# Altium footprint library FLS ADC_A.PcbLib: 26 footprints (part 1 of 2)
Each footprint in its own frame and in the unit in brackets; x right, y up, seen from the top. Pads: shape width x height; smd on the part's side, far side on the other; paste and mask are expansions set on the pad; w line width, h text height; cw(c..) or ccw(c..) is an arc to the next point about the centre after c.
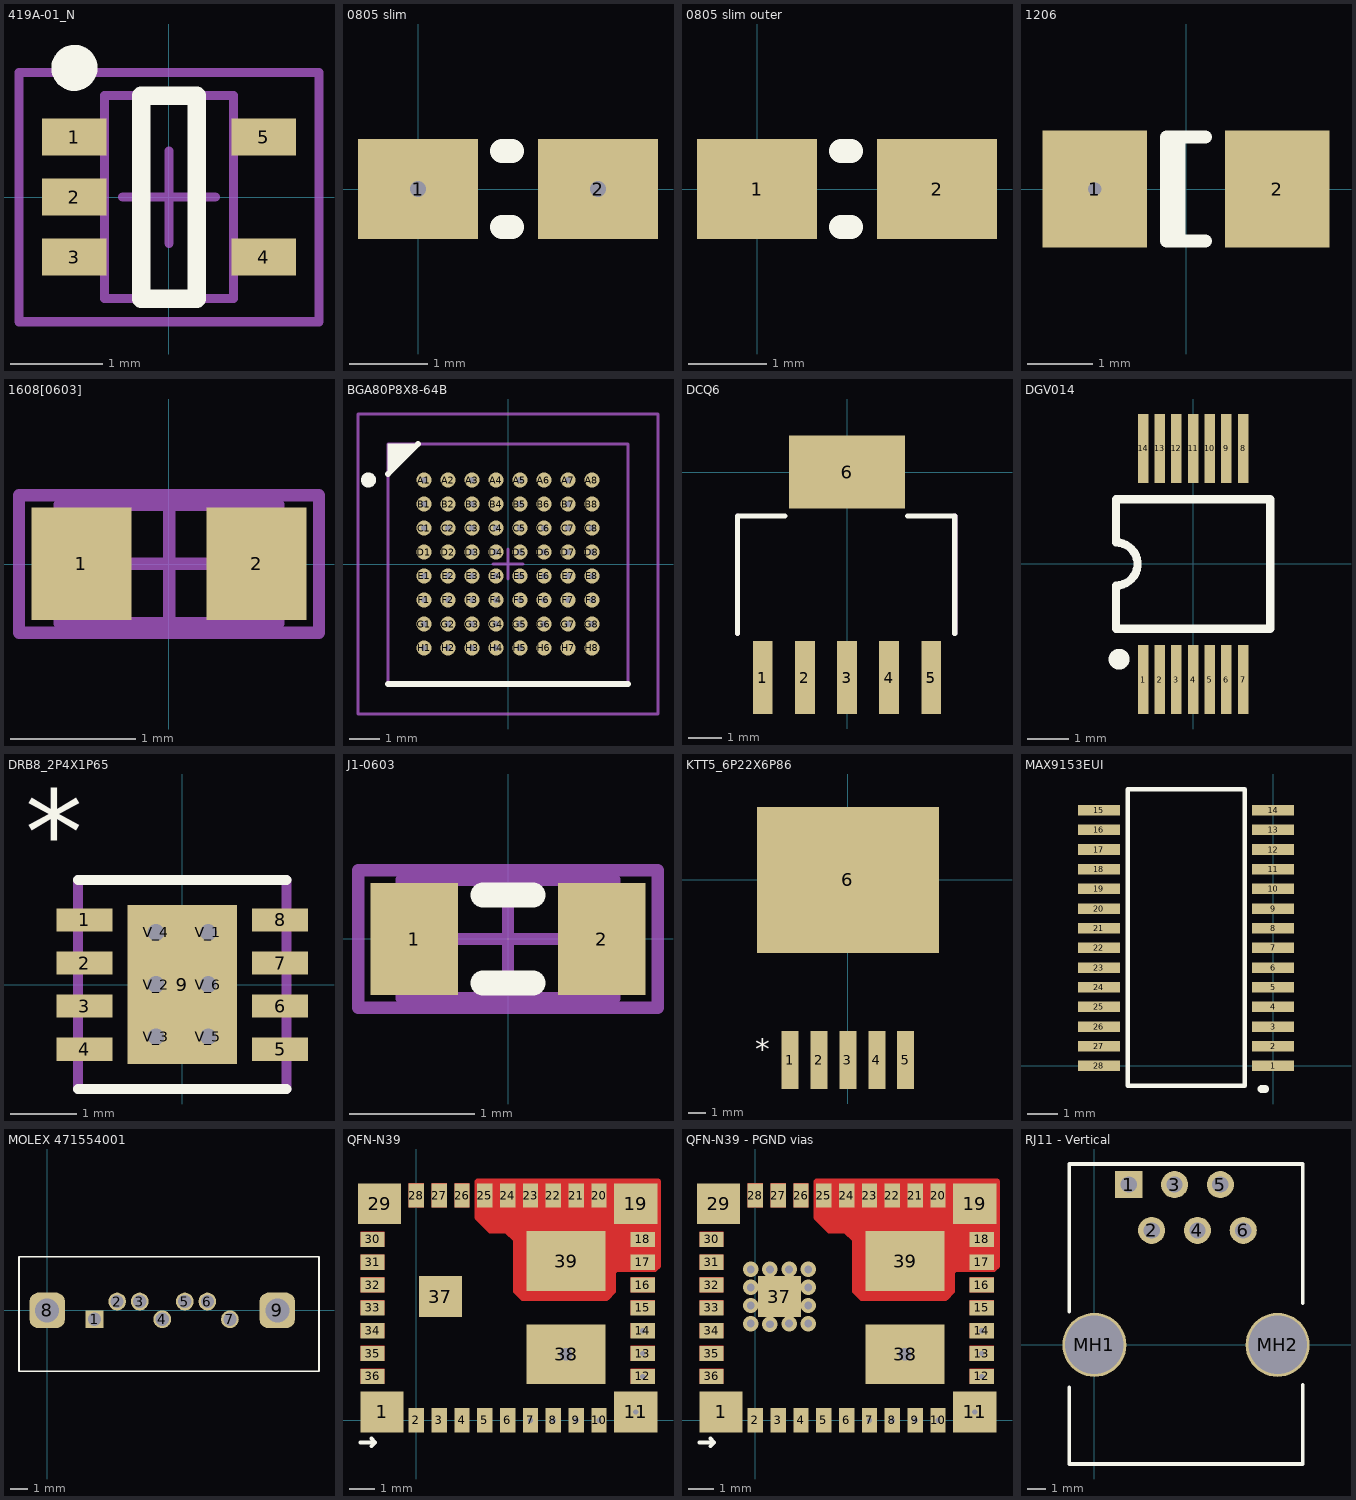
[diagram p0: the footprints below, top view; thin cyan lines are the x and y axes]

## 419A-01_N [mm] "SOT353, 5-Leads, Body 2x1.3mm, Pitch 0.65mm, Lead Span 2.1mm, IPC Medium Density"
height 1.1
pads (5):
  rect 0.7x0.4 smd: 1(-1.025,0.65) 2(-1.025,0) 3(-1.025,-0.65) 4(1.025,-0.65) 5(1.025,0.65)
Top Overlay:
  circle w0.25: c-1.025,1.4 r0.125
  lines w0.2: -0.3,-1.1 0.3,-1.1 0.3,1.1 -0.3,1.1 -0.3,-1.1
Mechanical 13:
  lines w0.1: -0.7,-1.1 -0.7,1.1 0.7,1.1 0.7,-1.1 -0.7,-1.1
Mechanical 15:
  lines w0.1: -0.5,0 0.5,0 ; 0,-0.5 0,0.5 ; -1.625,-1.35 -1.625,1.35 1.625,1.35 1.625,-1.35 -1.625,-1.35
3D body: height 1.1, standoff 0, extent -0.7,-1.1 0.7,1.1

## 0805 slim [mil]
height 2
pads (2):
  rect 60x50 / inner rect 60x50 / far side rect 20x20 hole 8: 1(0,0)
  rect 60x50 hole 8: 2(90,0)
Top Overlay:
  lines w12: 42,-19 47,-19 ; 42,19 47,19

## 0805 slim outer [mil]
height 2
pads (2):
  rect 60x50 smd: 1(0,0) 2(90,0)
Top Overlay:
  lines w12: 42,-19 47,-19 ; 42,19 47,19

## 1206 [mm] "Chip Capacitor; Body 3.2 x 1.6 mm (LxW typ)"
height 1.5
pads (2):
  rect 1.6x1.8 hole 0.203: 1(-1.4,0)
  rect 1.6x1.8 smd: 2(1.4,0)
Top Overlay:
  lines w0.2: -0.11,-0.8 -0.11,0.8 ; 0.3,-0.8 -0.3,-0.8 -0.3,0.8 0.3,0.8

## 1608[0603] [mm] "Chip Capacitor, Body 1.6x0.8mm, IPC High Density"
height 1.3
pads (2):
  rect 0.8x0.9 smd: 1(-0.7,0) 2(0.7,0)
Mechanical 13:
  lines w0.1: -0.875,-0.475 0.875,-0.475 0.875,0.475 -0.875,0.475 -0.875,-0.475
Mechanical 15:
  lines w0.1: -0.475,0 0.475,0 ; 0,-0.475 0,0.475 ; -1.2,-0.55 1.2,-0.55 1.2,0.55 -1.2,0.55 -1.2,-0.55
3D body: height 1.3, standoff 0, extent -0.875,-0.475 0.875,0.475

## BGA80P8X8-64B [mil] "BGA, 64-Leads, Body 8x8mm, Pitch 0.8mm"
height 66.93
pads (64):
  round 20 hole 8: A1(-110.24,110.24) A3(-47.24,110.24) A5(15.75,110.24) A7(78.74,110.24) B1(-110.24,78.74) B3(-47.24,78.74) B5(15.75,78.74) B7(78.74,78.74) C1(-110.24,47.24) C2(-78.74,47.24) C3(-47.24,47.24) C4(-15.75,47.24) C5(15.75,47.24) C6(47.24,47.24) C7(78.74,47.24) C8(110.24,47.24) D3(-47.24,15.75) D4(-15.75,15.75) D5(15.75,15.75) D6(47.24,15.75) D7(78.74,15.75) D8(110.24,15.75) E1(-110.24,-15.75) E2(-78.74,-15.75) E3(-47.24,-15.75) E4(-15.75,-15.75) E5(15.75,-15.75) E6(47.24,-15.75) E7(78.74,-15.75) E8(110.24,-15.75) F1(-110.24,-47.24) F2(-78.74,-47.24) F3(-47.24,-47.24) F4(-15.75,-47.24) F5(15.75,-47.24) F6(47.24,-47.24) F7(78.74,-47.24) F8(110.24,-47.24) G1(-110.24,-78.74) G2(-78.74,-78.74) G3(-47.24,-78.74) G4(-15.75,-78.74) G5(15.75,-78.74) G6(47.24,-78.74) G7(78.74,-78.74) G8(110.24,-78.74) H1(-110.24,-110.24) H2(-78.74,-110.24) H3(-47.24,-110.24) H4(-15.75,-110.24) H5(15.75,-110.24)
  round 20 smd: A2(-78.74,110.24) A4(-15.75,110.24) A6(47.24,110.24) A8(110.24,110.24) B2(-78.74,78.74) B4(-15.75,78.74) B6(47.24,78.74) B8(110.24,78.74) D1(-110.24,15.75) D2(-78.74,15.75) H6(47.24,-110.24) H7(78.74,-110.24) H8(110.24,-110.24)
Top Overlay:
  circle w9.84: c-183.07,110.24 r4.92
  region: -118.11,157.48 -157.48,118.11 -157.48,157.48
  lines w7.87: -157.48,-157.48 157.48,-157.48 ; -157.48,118.11 -118.11,157.48
Mechanical 13:
  lines w3.94: -157.48,-157.48 -157.48,157.48 157.48,157.48 157.48,-157.48 -157.48,-157.48
Mechanical 15:
  lines w3.94: -19.68,0 19.69,0 ; 0,-19.69 0,19.69 ; -196.85,-196.85 -196.85,196.85 196.85,196.85 196.85,-196.85 -196.85,-196.85
3D body: height 43.31, standoff 0, extent -157.48,-157.48 157.48,157.48

## DCQ6 [mm]
height 1.803
pads (6):
  rect 0.6x2.2 smd: 1(-2.54,-6.2) 2(-1.27,-6.2) 3(0,-6.2) 4(1.27,-6.2) 5(2.54,-6.2)
  rect 3.5x2.2 smd: 6(0,0)
Top Overlay:
  lines w0.152: -3.302,-4.877 -3.302,-1.321 -1.871,-1.321 ; 1.82,-1.321 3.251,-1.321 3.251,-4.877
Mechanical 1:
  lines w0: -3.302,-4.877 -3.302,-1.321 ; 3.251,-4.877 3.251,-1.321
  lines w0.152: -3.302,-4.877 -3.302,-1.321 ; 3.251,-4.877 3.251,-1.321

## DGV014 [mm] "Shrink Small Outline; 14 Leads; Body Width 4.4 mm; Pitch 0.4 mm"
height 1.2
pads (14):
  rect 0.25x1.65 smd: 1(-1.2,-2.775) 2(-0.8,-2.775) 3(-0.4,-2.775) 4(0,-2.775) 5(0.4,-2.775) 6(0.8,-2.775) 7(1.2,-2.775) 8(1.2,2.775) 9(0.8,2.775) 10(0.4,2.775) 11(0,2.775) 12(-0.4,2.775) 13(-0.8,2.775) 14(-1.2,2.775)
Top Overlay:
  circle w0.25: c-1.778,-2.284 r0.125
  lines w0.2: -1.85,-1.55 -1.85,-0.517 ccw(c-1.85,0) -1.85,0.517 -1.85,1.55 1.85,1.55 1.85,-1.55 -1.85,-1.55

## DRB8_2P4X1P65 [mm]
height 2.54
pads (15):
  rect 0.85x0.35 smd paste-0.412: 1(-1.475,0.975) 2(-1.475,0.325) 3(-1.475,-0.325) 4(-1.475,-0.975) 5(1.475,-0.975) 6(1.475,-0.325) 7(1.475,0.325) 8(1.475,0.975)
  rect 1.65x2.4 smd paste-1.187 mask-1.187: 9(0,0)
  round 0.508 / inner round 1.524 / far side round 0.508 hole 0.254: V_1(0.394,0.787) V_2(-0.394,0) V_3(-0.394,-0.787) V_4(-0.394,0.787) V_5(0.394,-0.787) V_6(0.394,0)
Top Layer:
  region: 0,-1.2
Top Overlay:
  lines w0.152: -1.575,-1.575 1.575,-1.575 ; -1.575,1.575 1.575,1.575
  text "*" at -2.369,1.681 h1.27
Top Paste:
  drawing of 21 lines, arcs and shapes, not listed
Top Solder:
  region: 0.594,-1.264 0.594,1.264 0.888,1.264 0.888,-1.264
  region: 0.194,-1.264 0.194,1.264 -0.194,1.264 -0.194,-1.264
  region: -0.888,-1.264 -0.888,1.264 -0.594,1.264 -0.594,-1.264
  region: -0.888,-1.264 -0.888,-0.987 0.888,-0.987 0.888,-1.264
  region: -0.888,-0.587 -0.888,-0.2 0.888,-0.2 0.888,-0.587
  region: -0.888,0.2 -0.888,0.587 0.888,0.587 0.888,0.2
  region: -0.888,0.987 -0.888,1.264 0.888,1.264 0.888,0.987
  region: 0,-1.2
  region: 1.97,1.22 0.98,1.22 0.98,0.73 1.97,0.73
  region: 1.97,0.57 0.98,0.57 0.98,0.08 1.97,0.08
  region: 1.97,-0.08 0.98,-0.08 0.98,-0.57 1.97,-0.57
  region: 1.97,-0.73 0.98,-0.73 0.98,-1.22 1.97,-1.22
  region: -0.98,-0.73 -1.97,-0.73 -1.97,-1.22 -0.98,-1.22
  region: -0.98,-0.08 -1.97,-0.08 -1.97,-0.57 -0.98,-0.57
  region: -0.98,0.57 -1.97,0.57 -1.97,0.08 -0.98,0.08
  region: -0.98,1.22 -1.97,1.22 -1.97,0.73 -0.98,0.73
Mechanical 1:
  lines w0: -1.575,-1.575 -1.575,1.575 1.575,1.575 1.575,-1.575 -1.575,-1.575 ; -1.575,-1.16 -1.575,-0.79 -1.575,-1.16 ; -1.575,-0.51 -1.575,-0.14 -1.575,-0.51 ; -1.575,0.14 -1.575,0.51 -1.575,0.14 ; -1.575,0.79 -1.575,1.16 -1.575,0.79 ; 1.575,-1.16 1.575,-0.79 1.575,-1.16 ; 1.575,-0.51 1.575,-0.14 1.575,-0.51 ; 1.575,0.14 1.575,0.51 1.575,0.14 ; 1.575,0.79 1.575,1.16 1.575,0.79
  lines w0.152: -1.575,-1.575 1.575,-1.575 1.575,1.575 -1.575,1.575 -1.575,-1.575
  text "*" at -2.369,1.681 h1.27

## J1-0603 [mm] "Chip Resistor, Body 1.6x0.8mm, IPC High Density"
height 0.9
pads (2):
  rect 0.7x0.9 smd: 1(-0.75,0) 2(0.75,0)
Top Overlay:
  lines w0.2: -0.2,-0.35 0.2,-0.35 ; -0.2,0.35 0.2,0.35
Mechanical 13:
  lines w0.1: -0.85,-0.475 0.85,-0.475 0.85,0.475 -0.85,0.475 -0.85,-0.475
Mechanical 15:
  lines w0.1: -0.475,0 0.475,0 ; 0,-0.475 0,0.475 ; -1.2,-0.55 1.2,-0.55 1.2,0.55 -1.2,0.55 -1.2,-0.55
3D body: height 0.9, standoff 0, extent -0.85,-0.475 0.85,0.475

## KTT5_6P22X6P86 [mm]
height 2.54
pads (6):
  rect 1x3.4 smd: 1(-3.4,-10.6) 2(-1.7,-10.6) 3(0,-10.6) 4(1.7,-10.6) 5(3.4,-10.6)
  rect 10.7x8.6 smd: 6(0,0)
Top Overlay:
  text "*" at -5.461,-10.617 h1.27
Mechanical 1:
  text "100" at 0,0 h1.27
  text "*" at -5.461,-10.617 h1.27
3D body: height 4.57, standoff -0.15, extent -5.054,-11.582 5.106,2.718

## MAX9153EUI [mm]
height 1.092
pads (28):
  rect 1.4x0.35 smd: 1(0,0) 2(0,0.65) 3(0,1.3) 4(0,1.95) 5(0,2.6) 6(0,3.25) 7(0,3.9) 8(0,4.55) 9(0,5.2) 10(0,5.85) 11(0,6.5) 12(0,7.15) 13(0,7.8) 14(0,8.45) 15(-5.75,8.45) 16(-5.75,7.8) 17(-5.75,7.15) 18(-5.75,6.5) 19(-5.75,5.85) 20(-5.75,5.2) 21(-5.75,4.55) 22(-5.75,3.9) 23(-5.75,3.25) 24(-5.75,2.6) 25(-5.75,1.95) 26(-5.75,1.3) 27(-5.75,0.65) 28(-5.75,0)
Top Overlay:
  lines w0.152: -4.801,-0.66 -4.801,9.144 -0.94,9.144 -0.94,-0.66 -4.801,-0.66
  lines w0.254: -0.381,-0.762 -0.254,-0.762

## MOLEX 471554001 [mm] "CONN SATA HDR 7POS PCB VERT"
height 15
pads (9):
  rect 1x1 hole 0.74: 1(2.67,-0.5)
  round 1 hole 0.74: 2(3.94,0.5) 3(5.21,0.5) 4(6.48,-0.5) 5(7.75,0.5) 6(9.02,0.5) 7(10.29,-0.5)
  rrect50% 2x2 hole 1.35: 8(0,0) 9(12.96,0)
Top Overlay:
  lines w0.1: -1.59,-3.43 -1.59,3.027 15.31,3.027 15.31,-3.43 -1.59,-3.43
3D body: height 4.2, standoff -6.85, extent -1.59,-3.626 15.31,2.824

## QFN-N39 [mm] "TI TPS84410 Voltage Regulator"
height 2
pads (39):
  rect 1.7x1.6 smd: 1(-1.35,0.325) 19(8.65,8.525) 29(-1.45,8.525) 37(0.95,4.875)
  rect 0.6x0.95 smd: 2(0,0) 3(0.9,0) 4(1.8,0) 5(2.7,0) 6(3.6,0) 20(7.2,8.85) 21(6.3,8.85) 22(5.4,8.85) 23(4.5,8.85) 24(3.6,8.85) 25(2.7,8.85) 26(1.8,8.85) 27(0.9,8.85) 28(0,8.85)
  rect 0.6x0.95 hole 0.203: 7(4.5,0) 8(5.4,0) 9(6.3,0) 10(7.2,0)
  rect 1.7x1.6 / inner rect 1.7x1.6 / far side rect 0.508x0.508 hole 0.203: 11(8.65,0.325)
  rect 0.95x0.6 hole 0.203: 12(8.925,1.725) 13(8.925,2.625) 14(8.925,3.525)
  rect 0.95x0.6 smd: 15(8.925,4.425) 16(8.925,5.325) 17(8.925,6.225) 18(8.925,7.125) 30(-1.725,7.125) 31(-1.725,6.225) 32(-1.725,5.325) 33(-1.725,4.425) 34(-1.725,3.525) 35(-1.725,2.625) 36(-1.725,1.725)
  rect 3.1x2.35 hole 0.508: 38(5.9,2.6)
  rect 3.1x2.35 smd: 39(5.9,6.275)
Top Layer:
  region: -1.25,7.441 -2.2,7.441 -2.2,6.841 -1.25,6.841
  region: 0.3,8.391 0.3,9.341 -0.3,9.341 -0.3,8.391
  region: 1.2,8.391 1.2,9.341 0.6,9.341 0.6,8.391
  region: 3,8.391 3,9.341 2.4,9.341 2.4,8.391
  region: 2.1,8.391 2.1,9.341 1.5,9.341 1.5,8.391
  region: 5.7,8.391 5.7,9.341 5.1,9.341 5.1,8.391
  region: 6.6,8.391 6.6,9.341 6,9.341 6,8.391
  region: 4.8,8.391 4.8,9.341 4.2,9.341 4.2,8.391
  region: 3.9,8.391 3.9,9.341 3.3,9.341 3.3,8.391
  region: 7.5,8.391 7.5,9.341 6.9,9.341 6.9,8.391
  region: 9.4,7.441 8.45,7.441 8.45,6.841 9.4,6.841
  region: -1.25,5.641 -2.2,5.641 -2.2,5.041 -1.25,5.041
  region: -1.25,6.541 -2.2,6.541 -2.2,5.941 -1.25,5.941
  region: -1.25,3.841 -2.2,3.841 -2.2,3.241 -1.25,3.241
  region: -1.25,4.741 -2.2,4.741 -2.2,4.141 -1.25,4.141
  region: -1.25,2.941 -2.2,2.941 -2.2,2.341 -1.25,2.341
  region: -1.25,2.041 -2.2,2.041 -2.2,1.441 -1.25,1.441
  region: 9.4,2.041 8.45,2.041 8.45,1.441 9.4,1.441
  region: 9.4,2.941 8.45,2.941 8.45,2.341 9.4,2.341
  region: 9.4,4.741 8.45,4.741 8.45,4.141 9.4,4.141
  region: 9.4,3.841 8.45,3.841 8.45,3.241 9.4,3.241
  region: 9.4,6.541 8.45,6.541 8.45,5.941 9.4,5.941
  region: 9.4,5.641 8.45,5.641 8.45,5.041 9.4,5.041
  rectangle: 2.921,7.493 9.525,9.398
  rectangle: 2.413,8.001 3.175,8.382
  rectangle: 2.794,7.62 3.175,7.747
  rectangle: 3.937,6.223 4.826,7.747
  rectangle: 3.683,7.239 4.064,7.747
  rectangle: 3.937,5.08 7.747,6.35
  rectangle: 4.064,4.953 7.62,5.207
  rectangle: 4.572,5.969 9.398,7.747
  rectangle: 2.667,7.62 3.175,8.128
  rectangle: 2.54,7.747 2.794,8.255
  lines w0.254: 2.413,8.001 2.413,9.398 9.525,9.398 9.525,6.096 9.398,5.969 7.874,5.969 7.747,5.842 7.747,5.08 7.493,4.826 4.191,4.826 3.937,5.08 3.937,7.112 3.556,7.493 2.921,7.493 2.413,8.001
Top Overlay:
  lines w0.152: -2.2,-0.875 -1.625,-0.875 ; -1.775,-1.025 -1.625,-0.875 ; -1.775,-0.725 -1.625,-0.875

## QFN-N39 - PGND vias [mm] "TI TPS84410 Voltage Regulator"
height 2
pads (39):
  rect 1.7x1.6 smd: 1(-1.35,0.325) 19(8.65,8.525) 29(-1.45,8.525)
  rect 0.6x0.95 smd: 2(0,0) 3(0.9,0) 4(1.8,0) 5(2.7,0) 6(3.6,0) 20(7.2,8.85) 21(6.3,8.85) 22(5.4,8.85) 23(4.5,8.85) 24(3.6,8.85) 25(2.7,8.85) 26(1.8,8.85) 27(0.9,8.85) 28(0,8.85)
  rect 0.6x0.95 hole 0.203: 7(4.5,0) 8(5.4,0) 9(6.3,0) 10(7.2,0)
  rect 1.7x1.6 / inner rect 1.7x1.6 / far side rect 0.508x0.508 hole 0.203: 11(8.65,0.325)
  rect 0.95x0.6 hole 0.203: 12(8.925,1.725) 13(8.925,2.625) 14(8.925,3.525)
  rect 0.95x0.6 smd: 15(8.925,4.425) 16(8.925,5.325) 17(8.925,6.225) 18(8.925,7.125) 30(-1.725,7.125) 31(-1.725,6.225) 32(-1.725,5.325) 33(-1.725,4.425) 34(-1.725,3.525) 35(-1.725,2.625) 36(-1.725,1.725)
  rect 1.7x1.6 smd mask+0.6: 37(0.95,4.875)
  rect 3.1x2.35 hole 0.508: 38(5.9,2.6)
  rect 3.1x2.35 smd: 39(5.9,6.275)
via 0.576,5.944 diameter 0.61 hole 0.305
via 1.329,5.944 diameter 0.61 hole 0.305
via -0.178,5.944 diameter 0.61 hole 0.305
via 2.083,5.944 diameter 0.61 hole 0.305
via -0.178,5.232 diameter 0.61 hole 0.305
via -0.178,4.521 diameter 0.61 hole 0.305
via -0.178,3.81 diameter 0.61 hole 0.305
via 0.576,3.785 diameter 0.61 hole 0.305
via 1.329,3.81 diameter 0.61 hole 0.305
via 2.083,3.81 diameter 0.61 hole 0.305
via 2.083,4.521 diameter 0.61 hole 0.305
via 2.083,5.232 diameter 0.61 hole 0.305
Top Layer:
  rectangle: 2.54,7.747 2.794,8.255
  rectangle: 2.667,7.62 3.175,8.128
  rectangle: 4.572,5.969 9.398,7.747
  rectangle: 4.064,4.953 7.62,5.207
  rectangle: 3.937,5.08 7.747,6.35
  rectangle: 3.683,7.239 4.064,7.747
  rectangle: 3.937,6.223 4.826,7.747
  rectangle: 2.794,7.62 3.175,7.747
  rectangle: 2.413,8.001 3.175,8.382
  rectangle: 2.921,7.493 9.525,9.398
  region: 9.4,5.641 8.45,5.641 8.45,5.041 9.4,5.041
  region: 9.4,6.541 8.45,6.541 8.45,5.941 9.4,5.941
  region: 9.4,3.841 8.45,3.841 8.45,3.241 9.4,3.241
  region: 9.4,4.741 8.45,4.741 8.45,4.141 9.4,4.141
  region: 9.4,2.941 8.45,2.941 8.45,2.341 9.4,2.341
  region: 9.4,2.041 8.45,2.041 8.45,1.441 9.4,1.441
  region: -1.25,2.041 -2.2,2.041 -2.2,1.441 -1.25,1.441
  region: -1.25,2.941 -2.2,2.941 -2.2,2.341 -1.25,2.341
  region: -1.25,4.741 -2.2,4.741 -2.2,4.141 -1.25,4.141
  region: -1.25,3.841 -2.2,3.841 -2.2,3.241 -1.25,3.241
  region: -1.25,6.541 -2.2,6.541 -2.2,5.941 -1.25,5.941
  region: -1.25,5.641 -2.2,5.641 -2.2,5.041 -1.25,5.041
  region: 9.4,7.441 8.45,7.441 8.45,6.841 9.4,6.841
  region: 7.5,8.391 7.5,9.341 6.9,9.341 6.9,8.391
  region: 3.9,8.391 3.9,9.341 3.3,9.341 3.3,8.391
  region: 4.8,8.391 4.8,9.341 4.2,9.341 4.2,8.391
  region: 6.6,8.391 6.6,9.341 6,9.341 6,8.391
  region: 5.7,8.391 5.7,9.341 5.1,9.341 5.1,8.391
  region: 2.1,8.391 2.1,9.341 1.5,9.341 1.5,8.391
  region: 3,8.391 3,9.341 2.4,9.341 2.4,8.391
  region: 1.2,8.391 1.2,9.341 0.6,9.341 0.6,8.391
  region: 0.3,8.391 0.3,9.341 -0.3,9.341 -0.3,8.391
  region: -1.25,7.441 -2.2,7.441 -2.2,6.841 -1.25,6.841
  lines w0.254: 2.413,8.001 2.921,7.493 3.556,7.493 3.937,7.112 3.937,5.08 4.191,4.826 7.493,4.826 7.747,5.08 7.747,5.842 7.874,5.969 9.398,5.969 9.525,6.096 9.525,9.398 2.413,9.398 2.413,8.001
Top Overlay:
  lines w0.152: -2.2,-0.875 -1.625,-0.875 ; -1.775,-1.025 -1.625,-0.875 ; -1.775,-0.725 -1.625,-0.875

## RJ11 - Vertical [mm] "TE Connectivity 5520258-3"
height 16.51
pads (8):
  rect 1.5x1.5 hole 0.9: 1(1.905,8.89)
  round 1.5 hole 0.9: 2(3.175,6.35) 3(4.445,8.89) 4(5.715,6.35) 5(6.985,8.89) 6(8.255,6.35)
  round 3.556 hole 3.251 unplated: MH1(0,0) MH2(10.16,0)
Top Overlay:
  lines w0.2: -1.397,-2.362 -1.397,-6.604 11.557,-6.604 11.557,-2.21 ; -1.397,1.854 -1.397,10.033 11.557,10.033 11.557,2.311